# EAGLE library part POLOLU_MICRO_MAESTRO (library SmartBike)
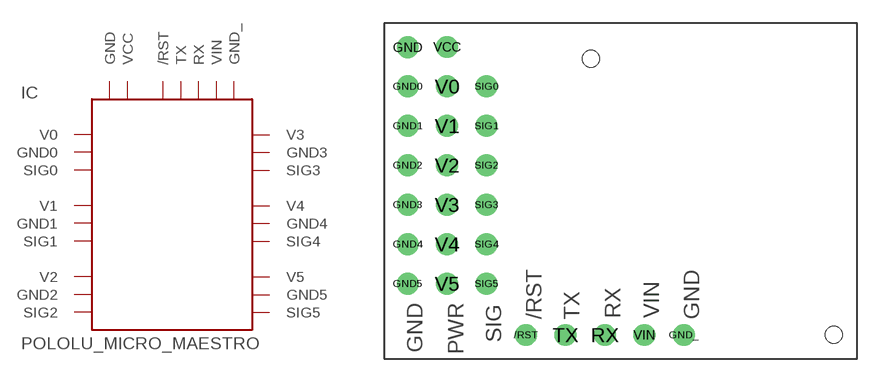
[diagram p0: symbol with the pads of POLOLU_MICRO_MAESTRO; footprint POLOLU_MICRO_MAESTRO]

Designator prefix IC

## POLOLU_MICRO_MAESTRO  [POLOLU_MICRO_MAESTRO]
/RST  /RST
GND  GND
GND0  GND0
GND1  GND1
GND2  GND2
GND3  GND3
GND4  GND4
GND5  GND5
GND_  GND_
RX  RX
SIG0  SIG0
SIG1  SIG1
SIG2  SIG2
SIG3  SIG3
SIG4  SIG4
SIG5  SIG5
TX  TX
V0  V0
V1  V1
V2  V2
V3  V3
V4  V4
V5  V5
VCC  VCC
VIN  VIN

## Footprint POLOLU_MICRO_MAESTRO (pad centres in mm)
drill 0.9: /RST -21.336,1.524; GND -28.956,20.041; GND0 -28.956,17.526; GND1 -28.956,14.986; GND2 -28.956,12.446; GND3 -28.956,9.906; GND4 -28.956,7.366; GND5 -28.956,4.826; GND_ -11.176,1.524; RX -16.256,1.524; SIG0 -23.876,17.526; SIG1 -23.876,14.986; SIG2 -23.876,12.446; SIG3 -23.876,9.906; SIG4 -23.876,7.366; SIG5 -23.876,4.826; TX -18.796,1.524; V0 -26.416,17.526; V1 -26.416,14.986; V2 -26.416,12.446; V3 -26.416,9.906; V4 -26.416,7.366; V5 -26.416,4.826; VCC -26.416,20.066; VIN -13.716,1.524
hole 1.092 at -1.524,1.524
hole 1.092 at -17.145,19.304